# EAGLE library part SLG7004V_DIP (library 22020117-1206PM-SLG47004V-DIP)
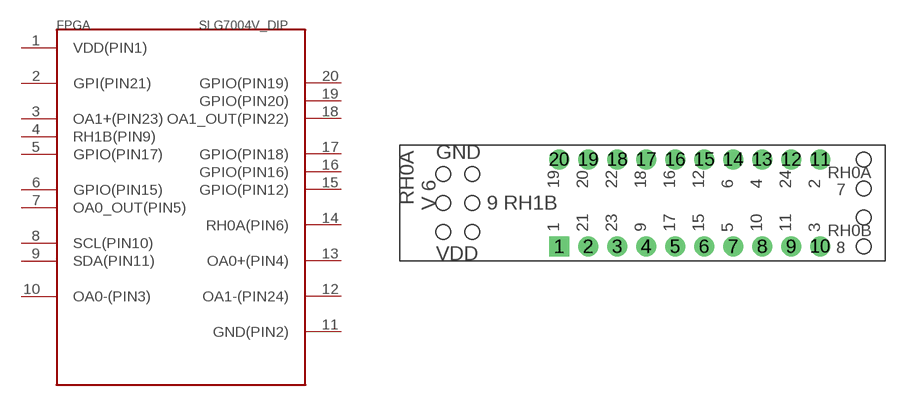
[diagram p0: symbol with the pads of SLG47004V-DIP; footprint SLG47004V-DIP]

Designator prefix FPGA

## SLG7004V_DIP  [SLG47004V-DIP]
1  VDD(PIN1)  pwr
2  GPI(PIN21)  in
3  OA1+(PIN23)
4  RH1B(PIN9)  pas
5  GPIO(PIN17)
6  GPIO(PIN15)
7  OA0_OUT(PIN5)
8  SCL(PIN10)
9  SDA(PIN11)
10  OA0-(PIN3)  oc
11  GND(PIN2)  pwr
12  OA1-(PIN24)
13  OA0+(PIN4)
14  RH0A(PIN6)  pas
15  GPIO(PIN12)
16  GPIO(PIN16)
17  GPIO(PIN18)  in
18  OA1_OUT(PIN22)
19  GPIO(PIN20)
20  GPIO(PIN19)

## Footprint SLG47004V-DIP (pad centres in mm)
20 (2 x 10) Pos DIP, ZIF (ZIP), 0.3" (7.62mm) Row Spacing Socket Gold Connector
drill 1.15 pad 1.75 square: 1 -11.43,-3.81
drill 1.15 pad 1.75: 2 -8.89,-3.81; 3 -6.35,-3.81; 4 -3.81,-3.81; 5 -1.276,-3.81; 6 1.27,-3.81; 7 3.81,-3.81; 8 6.35,-3.81; 9 8.89,-3.81; 10 11.43,-3.81; 11 11.43,3.81; 12 8.89,3.81; 13 6.35,3.81; 14 3.81,3.81; 15 1.27,3.81; 16 -1.27,3.81; 17 -3.81,3.81; 18 -6.35,3.81; 19 -8.89,3.81; 20 -11.43,3.81